# EAGLE library part ARDUINO_R3_SHIELD (library C3-General)
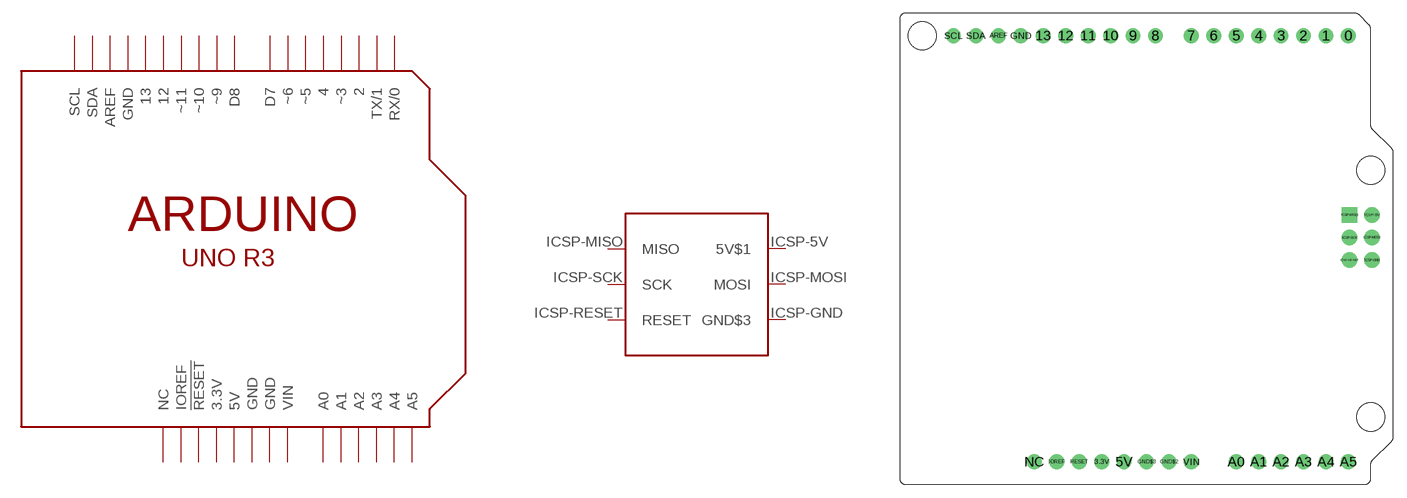
[diagram p7: symbol with the pads of ARDUINO_SHIELD; footprint ARDUINO_SHIELD]

Designator prefix -; gates SHIELD=ARDUINO-SHIELD ICSP=ARDUINO-ICSP

## ARDUINO_R3_SHIELD  [ARDUINO_SHIELD]
0  SHIELD:RX/0
1  SHIELD:TX/1
2  SHIELD:2
3  SHIELD:~3
3.3V  SHIELD:3.3V  pwr
4  SHIELD:4
5  SHIELD:~5
5V  SHIELD:5V  pwr
6  SHIELD:~6
7  SHIELD:D7
8  SHIELD:D8
9  SHIELD:~9
10  SHIELD:~10
11  SHIELD:~11
12  SHIELD:12
13  SHIELD:13
A0  SHIELD:A0
A1  SHIELD:A1
A2  SHIELD:A2
A3  SHIELD:A3
A4  SHIELD:A4
A5  SHIELD:A5
AREF  SHIELD:AREF
GND  SHIELD:GND  pwr
GND$2  SHIELD:GND  pwr
GND$3  SHIELD:GND  pwr
ICSP-5V  ICSP:5V$1  pas
ICSP-GND  ICSP:GND$3  pas
ICSP-MISO  ICSP:MISO  pas
ICSP-MOSI  ICSP:MOSI  pas
ICSP-RESET  ICSP:RESET  pas
ICSP-SCK  ICSP:SCK  pas
IOREF  SHIELD:IOREF  out
NC  SHIELD:NC  nc
RESET  SHIELD:!RESET
SCL  SHIELD:SCL
SDA  SHIELD:SDA
VIN  SHIELD:VIN  pwr

## Footprint ARDUINO_SHIELD (pad centres in mm)
drill 1 pad 1.676: 0 50.8,50.8; 1 48.26,50.8; 2 45.72,50.8; 3 43.18,50.8; 3.3V 22.86,2.54; 4 40.64,50.8; 5 38.1,50.8; 5V 25.4,2.54; 6 35.56,50.8; 7 33.02,50.8; 8 28.956,50.8; 9 26.416,50.8; 10 23.876,50.8; 11 21.336,50.8; 12 18.796,50.8; 13 16.256,50.8; A0 38.1,2.54; A1 40.64,2.54; A2 43.18,2.54; A3 45.72,2.54; A4 48.26,2.54; A5 50.8,2.54; AREF 11.176,50.8; GND 13.716,50.8; GND$2 30.48,2.54; GND$3 27.94,2.54; IOREF 17.78,2.54; NC 15.24,2.54; RESET 20.32,2.54; SCL 6.096,50.8; SDA 8.636,50.8; VIN 33.02,2.54
drill 1 pad 1.778: ICSP-5V 53.467,30.48; ICSP-GND 53.467,25.4; ICSP-MOSI 53.467,27.94; ICSP-RESET 50.927,25.4; ICSP-SCK 50.927,27.94
drill 1 pad 1.778 square: ICSP-MISO 50.927,30.48
hole 3.2 at 2.54,50.8
hole 3.2 at 53.34,35.56
hole 3.2 at 53.34,7.62